# Altium schematic symbol library ATGM336H.SchLib: 1 symbol
Pins are listed as number, name and electrical type; pins without a type are passive.

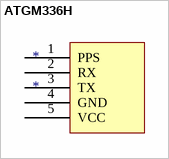
[diagram p0: symbol ATGM336H]

## ATGM336H
designator *
footprint DIP10
pins: 1 PPS, 2 RX, 3 TX, 4 GND, 5 VCC